# EAGLE library part IC-ULN2803A (library ic)
ULN2803A Darlington transistor array
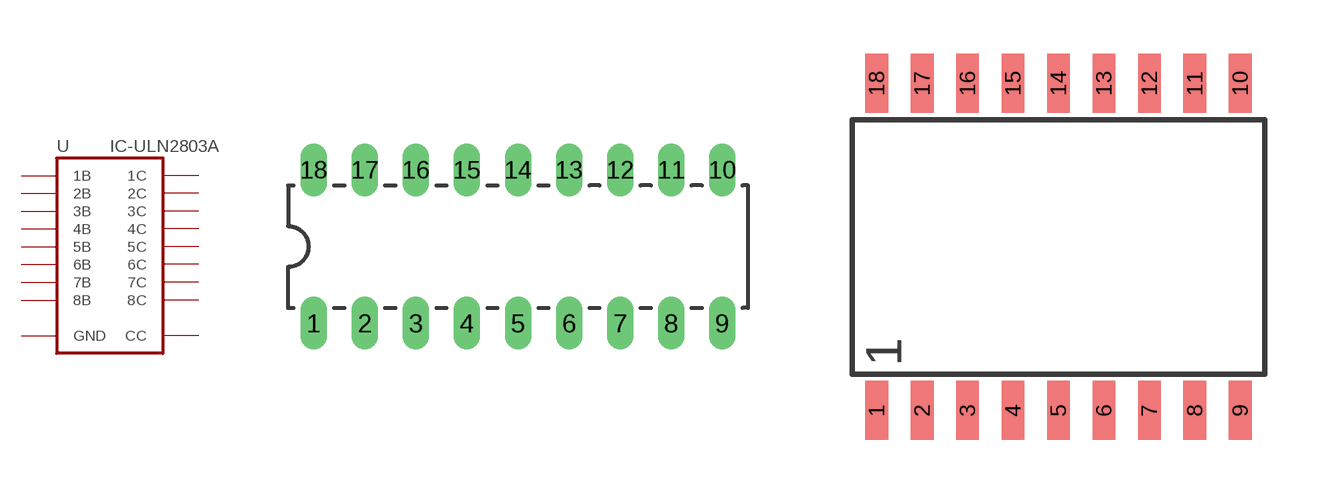
[diagram p8: symbol with the pads of IC-18-DIP-300; footprints IC-18-DIP-300, IC-18-SOIC-300]

Designator prefix U

## IC-ULN2803A-DIP  [IC-18-DIP-300]
1  1B  in
2  2B  in
3  3B  in
4  4B  in
5  5B  in
6  6B  in
7  7B  in
8  8B  in
9  GND  pwr
10  CC  pas
11  8C  oc
12  7C  oc
13  6C  oc
14  5C  oc
15  4C  oc
16  3C  oc
17  2C  oc
18  1C  oc

## IC-ULN2803A-SOIC  [IC-18-SOIC-300]
Pads as for IC-18-DIP-300

## Footprint IC-18-DIP-300 (pad centres in mm)
DIP (Dual Inline Package), 18 pin, 300 mil width
drill 0.813 long: 1 -10.16,-3.81; 2 -7.62,-3.81; 3 -5.08,-3.81; 4 -2.54,-3.81; 5 0,-3.81; 6 2.54,-3.81; 7 5.08,-3.81; 8 7.62,-3.81; 9 10.16,-3.81; 10 10.16,3.81; 11 7.62,3.81; 12 5.08,3.81; 13 2.54,3.81; 14 0,3.81; 15 -2.54,3.81; 16 -5.08,3.81; 17 -7.62,3.81; 18 -10.16,3.81

## Footprint IC-18-SOIC-300 (pad centres in mm)
smd 0.635 x 1.651: 1 -4.445,-4.572; 2 -3.175,-4.572; 3 -1.905,-4.572; 4 -0.635,-4.572; 5 0.635,-4.572; 6 1.905,-4.572; 7 3.175,-4.572; 8 4.445,-4.572; 9 5.715,-4.572; 10 5.715,4.572; 11 4.445,4.572; 12 3.175,4.572; 13 1.905,4.572; 14 0.635,4.572; 15 -0.635,4.572; 16 -1.905,4.572; 17 -3.175,4.572; 18 -4.445,4.572